# EAGLE library part SI4214DDY (library Volks73-VishaySiliconix)
Dual N-Channel 30V (D-S) MOSFET Documentation Datasheet <http://www.vishay.com/docs/67907/si4214ddy-t1-e3.pdf> Features TrenchFET® Power MOSFET 100% Rg Tested 100% UIS Tested Compliant to RoHS Directive 2002/95/EC Applications Notebook System Power Low Current DC/DC
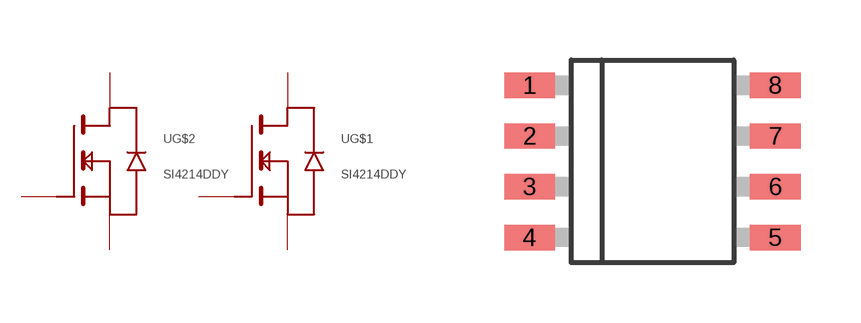
[diagram p0: symbol with the pads of SO-8; footprint SO-8]

Designator prefix U; gates G$2=N-CHAN-MOSFET G$1=N-CHAN-MOSFET

## SI4214DDY (CATEGORY: Discete Semiconductor Products; CURRENT-CONTINUOUS_DRAIN: 8.5A; DESCRIPTION: MOSFET 2N-CH 30V 8.5A 8-SOIC; DOCUMENTATION_LINK: <a href="http://www.vishay.com/docs/67907/si4214ddy-t1-e3.pdf">Datasheet</a>; DOCUMENTATION_URL: http://www.vishay.com/docs/67907/si4214ddy-t1-e3.pdf; DRAIN_TO_SOURCE_VOLTAGE: 30V; FAMILY: FETs - Arrays; FET_FEATURE: Logic Level Gate; FET_TYPE: 2 N-Channel (Dual); GATE_CHARGE: 22nC @ 10V; INPUT_CAPACITANCE: 660pF @ 15V; MANUFACTURER: Vishay Siliconix; MOUNTING_TYPE: Surface Mount; PART_NUMBER: SI4214DDY-T1-GE3; POWER-MAX: 3.1W; RDS_ON: 19.5 mOhm @ 8A, 10V; SERIES: TrenchFET; SUPPLIER_ITEM_LINK: <a href="http://www.digikey.com/product-detail/en/SI4214DDY-T1-GE3/SI4214DDY-T1-GE3CT-ND/3305376">Details</a>; SUPPLIER_ITEM_NUMBER: SI4214DDY-T1-GE3CT-ND; SUPPLIER_ITEM_URL: http://www.digikey.com/product-detail/en/SI4214DDY-T1-GE3/SI4214DDY-T1-GE3CT-ND/3305376; SUPPLIER_LINK: <a href="http://www.digikey.com">Home Page</a>; SUPPLIER_NAME: Digi-Key; SUPPLIER_URL: http://www.digikey.com; VGS: 2.5V @ 250uA)  [SO-8]
1  G$1:SOURCE
2  G$1:GATE  in
3  G$2:SOURCE
4  G$2:GATE  in
5  G$2:DRAIN
6  G$2:DRAIN
7  G$1:DRAIN
8  G$1:DRAIN

## Footprint SO-8 (pad centres in mm)
8-Pin Small Outline (SO)
smd 1.27 x 0.635: 1 -3.073,1.905; 2 -3.073,0.635; 3 -3.073,-0.635; 4 -3.073,-1.905; 5 3.073,-1.905; 6 3.073,-0.635; 7 3.073,0.635; 8 3.073,1.905